# EAGLE library part STM32C011F4U6TR (library stm32)
ARM Cortex-M Series 48MHz UFQFPN-20(3x3) Microcontrollers (MCU/MPU/SOC) ROHS
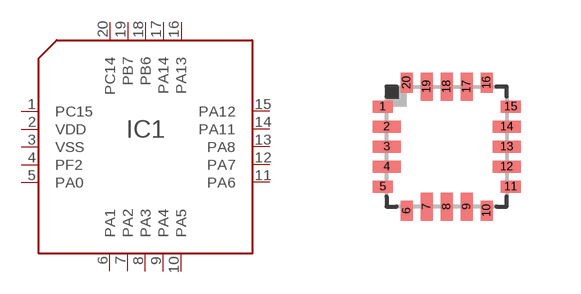
[diagram p21: symbol with the pads of UFQFPN20; footprint UFQFPN20]

Designator prefix IC1

## STM32C011F4U6TR (LCSC#: C5456188; MANF: STMicroelectronics; MANF#: STM32C011F4U6TR)  [UFQFPN20]
1  PC15
2  VDD
3  VSS
4  PF2
5  PA0
6  PA1
7  PA2
8  PA3
9  PA4
10  PA5
11  PA6
12  PA7
13  PA8
14  PA11
15  PA12
16  PA13
17  PA14
18  PB6
19  PB7
20  PC14

## Footprint UFQFPN20 (pad centres in mm)
smd 0.5 x 0.3: 1 -1.6,1; 5 -1.6,-1; 11 1.6,-1; 15 1.6,1
smd 0.7 x 0.3: 2 -1.5,0.5; 3 -1.5,0; 4 -1.5,-0.5; 12 1.5,-0.5; 13 1.5,0; 14 1.5,0.5
smd 0.3 x 0.5: 6 -1,-1.6; 10 1,-1.6; 16 1,1.6; 20 -1,1.6
smd 0.3 x 0.7: 7 -0.5,-1.5; 8 0,-1.5; 9 0.5,-1.5; 17 0.5,1.5; 18 0,1.5; 19 -0.5,1.5